# EAGLE library part TPS2543 (library everykey)
USB Charging Port Controller, USB BC1.2 and similar. Almost pin compatible devices include: TI TPS2540/2540A TI TPS2541/2541A TI TPS2543 TI TPS2544 TI TPS2546 ST STCC2540 Some devices might not use all signals.
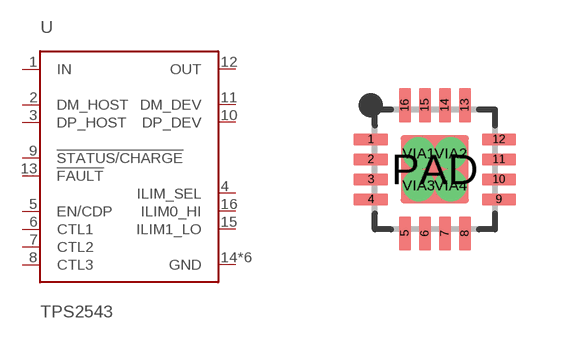
[diagram p99: symbol with the pads of QFN16-0.5-EP; footprint QFN16-0.5-EP]

Designator prefix -

## TPS2543-QFN16  [QFN16-0.5-EP]
1  IN  in
2  DM_HOST
3  DP_HOST
4  ILIM_SEL  in
5  EN/CDP  in
6  CTL1  in
7  CTL2  in
8  CTL3  in
9  !STATUS/CHARGE  out
10  DP_DEV
11  DM_DEV
12  OUT  out
13  !FAULT  out
14  GND  pwr
15  ILIM1_LO  in
16  ILIM0_HI  in
PAD  GND  pwr
VIA1  GND  pwr
VIA2  GND  pwr
VIA3  GND  pwr
VIA4  GND  pwr

## Footprint QFN16-0.5-EP (pad centres in mm)
QFN package 3x3mm, 16 pins, exposed pad, 0.5mm pitch
smd 0.85 x 0.3: 1 -1.6,0.75; 2 -1.6,0.25; 3 -1.6,-0.25; 4 -1.6,-0.75; 9 1.6,-0.75; 10 1.6,-0.25; 11 1.6,0.25; 12 1.6,0.75
smd 0.3 x 0.85: 5 -0.75,-1.6; 6 -0.25,-1.6; 7 0.25,-1.6; 8 0.75,-1.6; 13 0.75,1.6; 14 0.25,1.6; 15 -0.25,1.6; 16 -0.75,1.6
smd 1.7 x 1.7: PAD 0,0
drill 0.3: VIA1 -0.4,0.4; VIA2 0.4,0.4; VIA3 -0.4,-0.4; VIA4 0.4,-0.4